# EAGLE library part 640456-9 (library con-tycoelectronics)
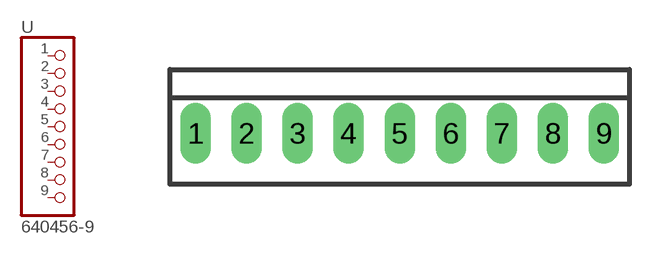
[diagram p3: symbol with the pads of 22-23-2091; footprint 22-23-2091]

Designator prefix -

## 640456-9  [22-23-2091]
1  1  pas
2  2  pas
3  3  pas
4  4  pas
5  5  pas
6  6  pas
7  7  pas
8  8  pas
9  9  pas

## Footprint 22-23-2091 (pad centres in mm)
.100" (2.54mm) Center Header - 9 Pin
drill 1 long: 1 -10.16,0; 2 -7.62,0; 3 -5.08,0; 4 -2.54,0; 5 0,0; 6 2.54,0; 7 5.08,0; 8 7.62,0; 9 10.16,0